# Altium schematic symbol library Miscellaneous_Lib1.SchLib: 18 symbols
Pins are listed as number, name and electrical type; pins without a type are passive.

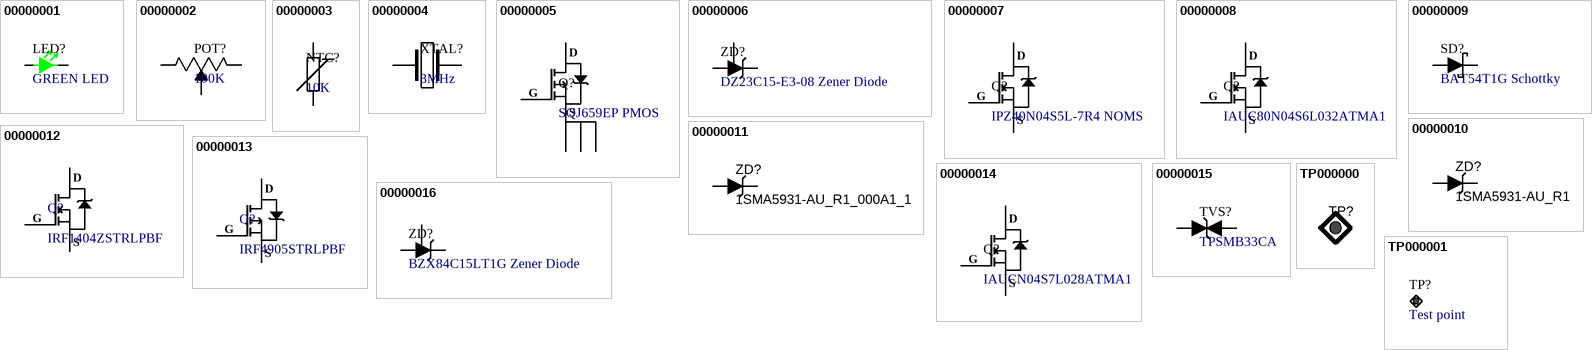
[diagram p0: symbols 00000001 to TP000001]

## 00000001
designator LED?, comment GREEN LED
LED GREEN DIFFUSED 0603 SMD; Manufacturer Product Number: LG Q396-PS-35-0-20-R18; Supplier 1: Avnet; Supplier Part Number 1: Q65111A3964; ComponentLink1Description: Digikey; ComponentLink1URL: https://www.digikey.com/en/products/detail/ams-osram-usa-inc/LG-Q396-PS-35/5249855
footprint DIOC1608X04N (Chip Diode, 2-Leads, Body 1.60x0.80mm, IPC Medium Density)
pins: 1, 2

## 00000002
designator POT?, comment 100K
TRIMMER 100K OHM 0.1W J LEAD TOP; Manufacturer Product Number: TC33X-2-104E; ComponentLink1Description: DigiKey; ComponentLink1URL: https://www.digikey.com/en/products/detail/bourns-inc/TC33X-2-104E/612859; Value: 100K; Supplier 1: Arrow Electronics; Supplier Part Number 1: TC33X-2-104E
footprint TC33X-2_POT (100K_potentiometer_SMD)
pins: 1, 2, 3

## 00000003
designator NTC?, comment 10K
THERMISTOR NTC 10KOHM 3380K 0603; Manufacturer Product Number: NCU18XH103F6SRB; value: 10K; Supplier 1: Arrow Electronics; Supplier Part Number 1: NCP18XH103F03RB; ComponentLink1Description: Digikey; ComponentLink1URL: https://www.digikey.com/en/products/detail/murata-electronics/NCU18XH103F6SRB/7243451
footprint SMD_0603
pins: 1, 2

## 00000004
designator XTAL?, comment 8MHz
CRYSTAL 8.0000MHZ 8PF SMD; Manufacturer Product Number: STDCSU1-8M; frequency: 8MHz; DigiKey Part Number: 644-STDCSU1-8MTR-ND; ComponentLink1Description: DigiKey; ComponentLink1URL: https://www.digikey.com/en/products/detail/ndk-america-inc/STDCSU1-8M/1788472
footprint XTAL-SMD
pins: 1, 2

## 00000005
designator Q?, comment SQJ659EP PMOS
P-Channel 60 V 52A (Tc) 83W (Tc) Surface Mount PowerPAK® SO-8; Manufacturer Product Number: SQJ459EP-T1_GE3; DigiKey Part Number: SQJ459EP-T1_GE3CT-ND; Mouser Part Number: 78-SQJ459EP-T2_BE3; ComponentLink1Description: DigiKey; ComponentLink1URL: https://www.digikey.com/en/products/detail/vishay-siliconix/SQJ459EP-T1-GE3/6708881; ComponentLink2Description: Mouser; ComponentLink2URL: https://eu.mouser.com/ProductDetail/Vishay-Siliconix/SQJ459EP-T2_BE3?qs=CiayqK2gdcKpg8h0vLRPjA%3D%3D; JLCPCB Part Number: C3289501
footprint PowerPAK SO-8L SINGLE
pins: D, G, S S1, S S2, S S3

## 00000006
designator ZD?, comment DZ23C15-E3-08 Zener Diode
Zener Diode Array 1 Pair Common Cathode 15 V 300 mW ±5% SOT-23-3; DigiKey Part Number: 112-DZ23C15-E3-08CT-ND; ComponentLink1Description: DigiKey; ComponentLink1URL: https://www.digikey.com/en/products/detail/vishay-general-semiconductor-diodes-division/DZ23C15-E3-08/4831460; Manufacturer Product Number: DZ23C15-E3-08
footprint SOT95P245X96-3N (SOT23, 3-Leads, Body 2.90x2.45mm, Pitch 0.95mm, IPC Medium Density)
pins: 1 Anode, 2 Anode, 3 Cathode

## 00000007
designator Q?, comment IPZ40N04S5L-7R4 NOMS
N-Channel 40 V 40A (Tc) 34W (Tc) Surface Mount PG-TSDSON-8; Manufacturer Product Number: IPZ40N04S5L7R4ATMA1; DigiKey Part Number: IPZ40N04S5L7R4ATMA1CT-ND; Mouser Part Number: 726-IPZ40N04S5L7R4AT; ComponentLink1Description: DigiKey; ComponentLink1URL: https://www.digikey.com/en/products/detail/infineon-technologies/IPZ40N04S5L7R4ATMA1/5960382; ComponentLink2Description: Mouser; ComponentLink2URL: https://eu.mouser.com/ProductDetail/Infineon-Technologies/IPZ40N04S5L7R4ATMA1?qs=RJIhqtkBntMJfptUOROQRQ%3D%3D; ComponentLink3Description: Footprint Drawing; ComponentLink3URL: https://www.infineon.com/cms/en/product/packages/PG-TSDSON/PG-TSDSON-8-32/#!downloads
footprint PG-TSDSON-8-32
pins: D Drain, G Gate, S Source

## 00000008
designator Q?, comment IAUC80N04S6L032ATMA1
N-Channel 40 V 80A (Tc) 50W (Tc) Surface Mount PG-TDSON-8; DigiKey Part Number: 448-IAUC80N04S6L032ATMA1CT-ND; Mouser Part Number: 726-IAUC80N04S6L032A; ComponentLink1Description: DigiKey; ComponentLink1URL: https://www.digikey.com/en/products/detail/infineon-technologies/IAUC80N04S6L032ATMA1/13677609; ComponentLink2Description: Mouser; ComponentLink2URL: https://eu.mouser.com/ProductDetail/Infineon-Technologies/IAUC80N04S6L032ATMA1?qs=BJlw7L4Cy7%2F3D%2F1wP9Fszw%3D%3D; ComponentLink3Description: Footprint Drawing; ComponentLink3URL: https://www.infineon.com/cms/en/product/packages/PG-TDSON/PG-TDSON-8-33/; Manufacturer Product Number: IAUC80N04S6L032ATMA1
footprint PG-TDSON-8-33 (5.48x5.15)
pins: D Drain, G Gate, S Source

## 00000009
designator SD?, comment BAT54T1G Schottky
Diode 30 V 200mA Surface Mount SOD-123; DigiKey Part Number: BAT54T1GOSCT-ND; ComponentLink1Description: DigiKey; ComponentLink1URL: https://www.digikey.com/en/products/detail/onsemi/BAT54T1G/918319; Manufacturer Product Number: BAT54T1G
footprint SODFL371X135-2N (SODFL, 2-Leads, Body 1.60x3.71mm, IPC Medium Density)
pins: 1 Anode, 2 Cathode

## 00000010
designator ZD?, comment 1SMA5931-AU_R1
Zener Diode 10 V 5 W ±5% Surface Mount SMC (DO-214AB); Manufacturer Product Number: 1SMC5347-AU_R1_000A1; Value: 10V; ComponentLink1Description: DigiKey; ComponentLink1URL: https://www.digikey.com/en/products/detail/panjit-international-inc/1SMC5347-AU-R1-000A1/15799564; DigiKey Part Number: 3757-1SMC5347-AU_R1_000A1CT-ND
footprint DIO_SMA (Molded Diode, 2-Leads, Body 4.30x2.70mm, IPC Medium Density)
pins: 1 Cathode, 2 Anode

## 00000011
designator ZD?, comment 1SMA5931-AU_R1_000A1_1
Zener Diode 18 V 1.5 W ±5% Surface Mount SMA (DO-214AC); Manufacturer Product Number: 1SMC5347-AU_R1_000A1; Value: 18V; ComponentLink1Description: DigiKey; ComponentLink1URL: https://www.digikey.com/en/products/detail/panjit-international-inc/1SMA5931-AU-R1-000A1/15799815; DigiKey Part Number: 3757-1SMC5347-AU_R1_000A1CT-ND
footprint DIO_SMA (Molded Diode, 2-Leads, Body 4.30x2.70mm, IPC Medium Density)
pins: 1 Cathode, 2 Anode

## 00000012
designator Q?, comment IRF1404ZSTRLPBF
N-Channel 40 V 180A (Tc) 200W (Tc) Surface Mount PG-TO263-3; Manufacturer: International Rectifier; Manufacturer Part Number: IRF1404ZSPBF; Drain to Source Breakdown Voltage: 40V; Drain to Source Resistance: 3.7mOhm @ 75A, 10V; Drain-source On Resistance-Max: 3.7MR; Dual Supply Voltage: 55V; Element Configuration: Single; Fall Time: 58ns; Gate to Source Voltage (Vgs): 20V; Input Capacitance: 4.34nF; Nominal Vgs: 4V; Number of Elements: 1; Power Dissipation: 220W; Recovery Time: 42ns; Rise Time: 110ns; Turn-Off Delay Time: 36ns; Turn-On Delay Time: 18ns; Case/Package: D2PAK; Category: MOSFETs; Continuous Drain Current (ID): 180A; Drain to Source Voltage (Vdss): 40V; Height: 4.83mm; Lead Free: Lead Free; Length: 10.67mm; Max Operating Temperature: 175°C; Max Power Dissipation: 200W; Min Operating Temperature: -55°C; Mount: Surface Mount; Number of Pins: 3; Package Quantity: 50; Packaging: Rail/Tube; Polarity: N-CHANNEL; Radiation Hardening: No; Rds On Max: 3.7mR; REACH SVHC: No SVHC; RoHS Compliant: Yes; Series: HEXFET®; Termination: SMD/SMT; Voltage Rating (DC): 55V; Width: 9.65mm; On-State Resistance: 3.7MR; Threshold Voltage: 4V; ComponentLink1Description: DigiKey; ComponentLink1URL: https://www.digikey.com/en/products/detail/infineon-technologies/IRF1404ZSTRLPBF/1928315; Manufacturer Product Number: IRF1404ZSTRLPBF
footprint DPAK254P1524X483-3N (D2-PAK, 3-Pads, Body 7.93x8.70mm (max), IPC Medium Density)
pins: 1 G, 3, 4
text: D; S

## 00000013
designator Q?, comment IRF4905STRLPBF
P-Channel 55 V 42A (Tc) 170W (Tc) Surface Mount D2PAK; Manufacturer: International Rectifier; Manufacturer Part Number: IRF1404ZSPBF; Drain to Source Breakdown Voltage: 55V; Drain to Source Resistance: 20mOhm @ 42A, 10V; Drain to Source Voltage (Vdss): 40V; Drain-source On Resistance-Max: 3.7MR; Element Configuration: Single; Fall Time: 58ns; Gate to Source Voltage (Vgs): 20V; Input Capacitance: 4.34nF; Max Power Dissipation: 200W; Nominal Vgs: 4V; Number of Elements: 1; Polarity: N-CHANNEL; Power Dissipation: 220W; Recovery Time: 42ns; Rise Time: 110ns; Turn-Off Delay Time: 36ns; Turn-On Delay Time: 18ns; Case/Package: D2PAK; Category: MOSFETs; Continuous Drain Current (ID): 42A; Dual Supply Voltage: 55V; Height: 4.83mm; Lead Free: Lead Free; Length: 10.67mm; Max Operating Temperature: 175°C; Min Operating Temperature: -55°C; Mount: Surface Mount; Number of Pins: 3; Package Quantity: 50; Packaging: Rail/Tube; Radiation Hardening: No; Rds On Max: 3.7mR; REACH SVHC: No SVHC; RoHS Compliant: Yes; Series: HEXFET®; Termination: SMD/SMT; Voltage Rating (DC): 55V; Width: 9.65mm; On-State Resistance: 3.7MR; Threshold Voltage: 4V; Manufacturer Product Number: IRF4905STRLPBF; ComponentLink1Description: DigiKey; ComponentLink1URL: https://www.digikey.com/en/products/detail/infineon-technologies/IRF4905STRLPBF/1928283
footprint DPAK254P1524X483-3N (D2-PAK, 3-Pads, Body 7.93x8.70mm (max), IPC Medium Density)
pins: 1 G, 3, 4
text: D; S

## 00000014
designator Q?, comment IAUCN04S7L028ATMA1
N-Channel 40 V 100A Surface Mount PG-TDSON-8-33; DigiKey Part Number: 448-IAUCN04S7L028ATMA1CT-ND; Mouser Part Number: 726-IAUCN04S7L028ATM; ComponentLink1Description: DigiKey; ComponentLink1URL: https://www.digikey.com/en/products/detail/infineon-technologies/IAUCN04S7L028ATMA1/22157720?s=N4IgTCBcDaIJIEECqBhAcgBgCwGUDsAMhmABwgC6AvkA; ComponentLink2Description: Mouser; ComponentLink2URL: https://eu.mouser.com/ProductDetail/Infineon-Technologies/IAUCN04S7L028ATMA1?qs=mELouGlnn3deeHozE86VbA%3D%3D; ComponentLink3Description: Footprint Drawing; ComponentLink3URL: https://www.infineon.com/cms/en/product/packages/PG-TDSON/PG-TDSON-8-33/; Manufacturer Product Number: IAUCN04S7L028ATMA1
footprint PG-TDSON-8-33 (5.48x5.15)
pins: D Drain, G Gate, S Source

## 00000015
designator TVS?, comment TPSMB33CA
45.7V Clamp 13.3A Ipp Tvs Diode Surface Mount DO-214AA (SMBJ); DigiKey Part Number: F6323CT-ND; ComponentLink1Description: DigiKey; ComponentLink1URL: https://www.digikey.com/en/products/detail/littelfuse-inc/TPSMB33CA/4835275; Manufacturer Product Number: TPSMB33CA; JLCPCB Part Number: C224085
footprint DO-214AA
pins: 1 Cathode, 2 Anode

## 00000016
designator ZD?, comment BZX84C15LT1G Zener Diode
Zener Diode 15 V 250 mW ±6% Surface Mount SOT-23-3 (TO-236); DigiKey Part Number: BZX84C15LT1GOSCT-ND; ComponentLink1Description: DigiKey; ComponentLink1URL: https://www.digikey.com/en/products/detail/onsemi/BZX84C15LT1G/918390; Manufacturer Product Number: BZX84C15LT1G; JLCPCB Part Number: C80857
footprint SOT95P245X96-3N (SOT23, 3-Leads, Body 2.90x2.45mm, Pitch 0.95mm, IPC Medium Density)
pins: 1 Anode, 2 Anode, 3 Cathode

## TP000000
designator TP?, comment TestPoint  (value not drawn)
Test Point; Rule: UNIONINDEX=0|RULEKIND=FabricationTestpoint|NETSCOPE=AnyNet|LAYERKIND=SameLayer|NAME=Schematic Fabrication Testpoint Style|SIDE=2|TESTPOINTUNDERCOMPONENT=TRUE|MINSIZE=40mil|MAXSIZE=100mil|PREFEREDSIZE=60mil|MINHOLESIZE=0mil|MAXHOLESIZE=40mil|PREFEREDHOLESIZE=32mil|TESTPOINTGRID=1mil|ALLOWSIDEBOTTOM=TRUE|USEGRID=TRUE|GRIDTOLERANCE=0.01mil|UNIT=Imperial
footprint TestPoint (1mm)
pins: 1 "Test Point"

## TP000001
designator TP?, comment Test point
Test point 1mm
footprint TestPoint (1mm)
pins: 1